# Altium footprint library RPi Bowler Footprint Lib.PcbLib: 8 footprints
Each footprint in its own frame and in the unit in brackets; x right, y up, seen from the top. Pads: shape width x height; smd on the part's side, far side on the other; paste and mask are expansions set on the pad; w line width, h text height; cw(c..) or ccw(c..) is an arc to the next point about the centre after c.
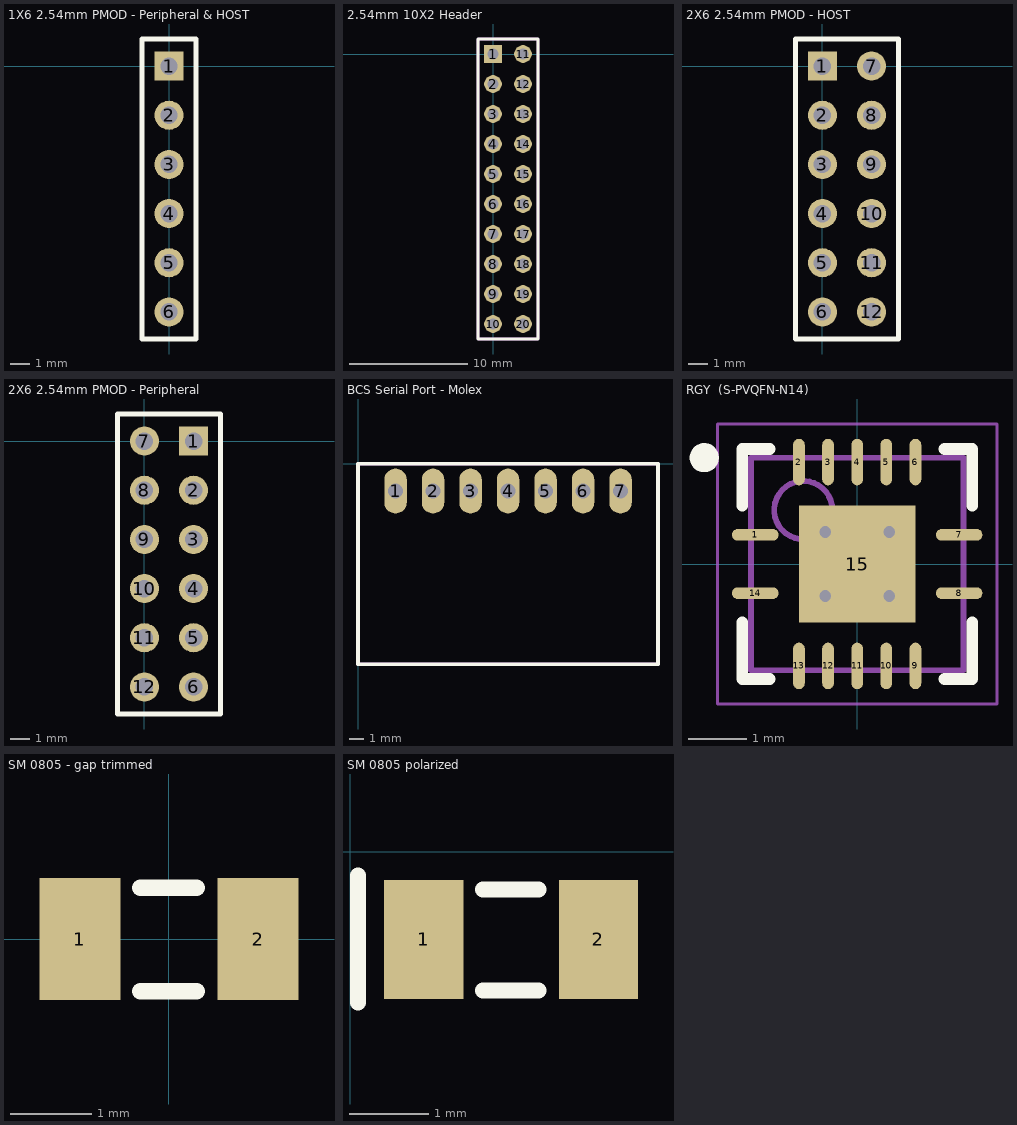
[diagram p0: the footprints below, top view; thin cyan lines are the x and y axes]

## 1X6 2.54mm PMOD - Peripheral & HOST [mm]
pads (6):
  rect 1.5x1.5 hole 0.9: 1(0,0)
  round 1.5 hole 0.9: 2(0,-2.54) 3(0,-5.08) 4(0,-7.62) 5(0,-10.16) 6(0,-12.7)
Top Overlay:
  lines w0.254: -1.397,-14.097 1.397,-14.097 1.397,1.397 -1.397,1.397 -1.397,-14.097

## 2.54mm 10X2 Header [mm]
pads (20):
  rect 1.5x1.5 hole 0.9: 1(0,0)
  round 1.5 hole 0.9: 2(0,-2.54) 3(0,-5.08) 4(0,-7.62) 5(0,-10.16) 6(0,-12.7) 7(0,-15.24) 8(0,-17.78) 9(0,-20.32) 10(0,-22.86) 11(2.54,0) 12(2.54,-2.54) 13(2.54,-5.08) 14(2.54,-7.62) 15(2.54,-10.16) 16(2.54,-12.7) 17(2.54,-15.24) 18(2.54,-17.78) 19(2.54,-20.32) 20(2.54,-22.86)
Top Overlay:
  lines w0.254: -1.27,-24.13 -1.27,1.27 3.81,1.27 3.81,-24.13 -1.27,-24.13
Mechanical 1:
  lines w0.254: -1.27,-24.13 3.81,-24.13 3.81,1.27 -1.27,1.27 -1.27,-24.13

## 2X6 2.54mm PMOD - HOST [mm]
pads (12):
  rect 1.5x1.5 hole 0.9: 1(0,0)
  round 1.5 hole 0.9: 2(0,-2.54) 3(0,-5.08) 4(0,-7.62) 5(0,-10.16) 6(0,-12.7) 7(2.54,0) 8(2.54,-2.54) 9(2.54,-5.08) 10(2.54,-7.62) 11(2.54,-10.16) 12(2.54,-12.7)
Top Overlay:
  lines w0.254: -1.397,-14.097 -1.397,1.397 3.937,1.397 3.937,-14.097 -1.397,-14.097

## 2X6 2.54mm PMOD - Peripheral [mm]
pads (12):
  rect 1.5x1.5 hole 0.9: 1(2.54,0)
  round 1.5 hole 0.9: 2(2.54,-2.54) 3(2.54,-5.08) 4(2.54,-7.62) 5(2.54,-10.16) 6(2.54,-12.7) 7(0,0) 8(0,-2.54) 9(0,-5.08) 10(0,-7.62) 11(0,-10.16) 12(0,-12.7)
Top Overlay:
  lines w0.254: -1.397,-14.097 -1.397,1.397 3.937,1.397 3.937,-14.097 -1.397,-14.097

## BCS Serial Port - Molex [mil] "Molex - 0705530041"
pads (7):
  oval 60x120 hole 40: 1(100,-73) 2(200,-73) 3(300,-73) 4(400,-73) 5(500,-73) 6(600,-73) 7(700,-73)
Top Overlay:
  lines w10: 0,-535.04 800,-535.04 800,0 0,0 0,-535.04
Mechanical 1:
  lines w10: 0,-535.04 0,0 800,0 800,-535.04 0,-535.04
3D body: height 177.17, standoff 0, extent 0,-535.04 800,2.98

## RGY  (S-PVQFN-N14) [mm] "QFN, 16-Leads, Body 3.50x3.50mm, Pitch 0.50mm, Thermal Pad 2.00x2.00mm, IPC Medium Density"
height 1
pads (15):
  oval 0.8x0.2 smd: 1(-1.75,0.5) 7(1.75,0.5) 8(1.75,-0.5) 14(-1.75,-0.5)
  oval 0.2x0.8 smd: 2(-1,1.75) 3(-0.5,1.75) 4(0,1.75) 5(0.5,1.75) 6(1,1.75) 9(1,-1.75) 10(0.5,-1.75) 11(0,-1.75) 12(-0.5,-1.75) 13(-1,-1.75)
  rect 2x2 smd: 15(0,0)
via 0.55,-0.55 diameter 0.5 hole 0.2
via -0.55,-0.55 diameter 0.5 hole 0.2
via 0.55,0.55 diameter 0.5 hole 0.2
via -0.55,0.55 diameter 0.5 hole 0.2
Top Overlay:
  circle w0.25: c-2.625,1.825 r0.125
  lines w0.2: -1.975,-1 -1.975,-1.975 -1.5,-1.975 ; -1.975,1 -1.975,1.975 -1.5,1.975 ; 1.5,-1.975 1.975,-1.975 1.975,-1 ; 1.5,1.975 1.975,1.975 1.975,1
Mechanical 13:
  circle w0.1: c-0.925,0.925 r0.5
  lines w0.1: -1.825,-1.825 1.825,-1.825 1.825,1.825 -1.825,1.825 -1.825,-1.825
Mechanical 15:
  lines w0.05: -2.4,-2.4 2.4,-2.4 2.4,2.4 -2.4,2.4 -2.4,-2.4
  lines w0.1: -0.5,0 0.5,0 ; 0,-0.5 0,0.5
3D body: height 1, standoff 0.05, extent -1.825,-1.825 1.825,1.825

## SM 0805 - gap trimmed [mm]
pads (2):
  rect 1x1.5 smd: 1(-1.1,0) 2(1.1,0)
Top Overlay:
  lines w0.203: -0.355,-0.645 0.345,-0.645 ; -0.355,0.63 0.345,0.63

## SM 0805 polarized [mm]
pads (2):
  rect 1x1.5 smd: 1(0.93,-1.105) 2(3.13,-1.105)
Top Overlay:
  lines w0.203: 0.1,-1.9 0.1,-0.3 ; 1.675,-1.75 2.375,-1.75 ; 1.675,-0.475 2.375,-0.475